# EAGLE library part AMIS30660CANH2G (library ON_Semiconductor_By_element14_Batch_1)
High Speed CAN Transceiver
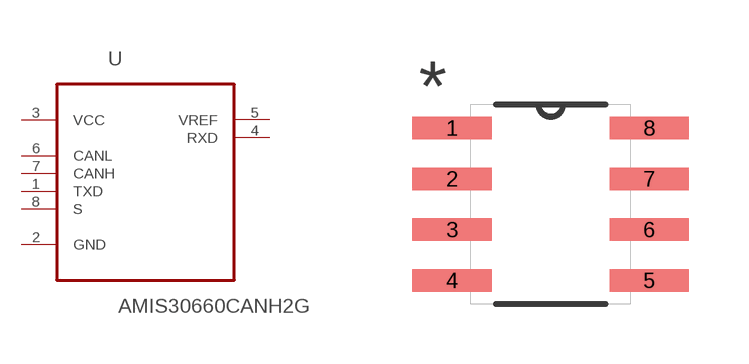
[diagram p10: symbol with the pads of SOIC127P600X175-8N; footprint SOIC127P600X175-8N]

Designator prefix U

## AMIS30660CANH2G (MPN: AMIS30660CANH2G; OC_FARNELL: 1641429; OC_NEWARK: 03P1154; PACKAGE: SOIC-8; SUPPLIER: Onsemiconductor)  [SOIC127P600X175-8N]
1  TXD  in
2  GND  pas
3  VCC  pwr
4  RXD  out
5  VREF  out
6  CANL  in
7  CANH  in
8  S  in

## Footprint SOIC127P600X175-8N (pad centres in mm)
smd 1.981 x 0.559: 1 -2.464,1.905; 2 -2.464,0.635; 3 -2.464,-0.635; 4 -2.464,-1.905; 5 2.464,-1.905; 6 2.464,-0.635; 7 2.464,0.635; 8 2.464,1.905